# Altium footprint library ESP32-S3-WROOM-1.PcbLib: 40 footprints (part 3 of 3)
Each footprint in its own frame and in the unit in brackets; x right, y up, seen from the top. Pads: shape width x height; smd on the part's side, far side on the other; paste and mask are expansions set on the pad; w line width, h text height; cw(c..) or ccw(c..) is an arc to the next point about the centre after c.
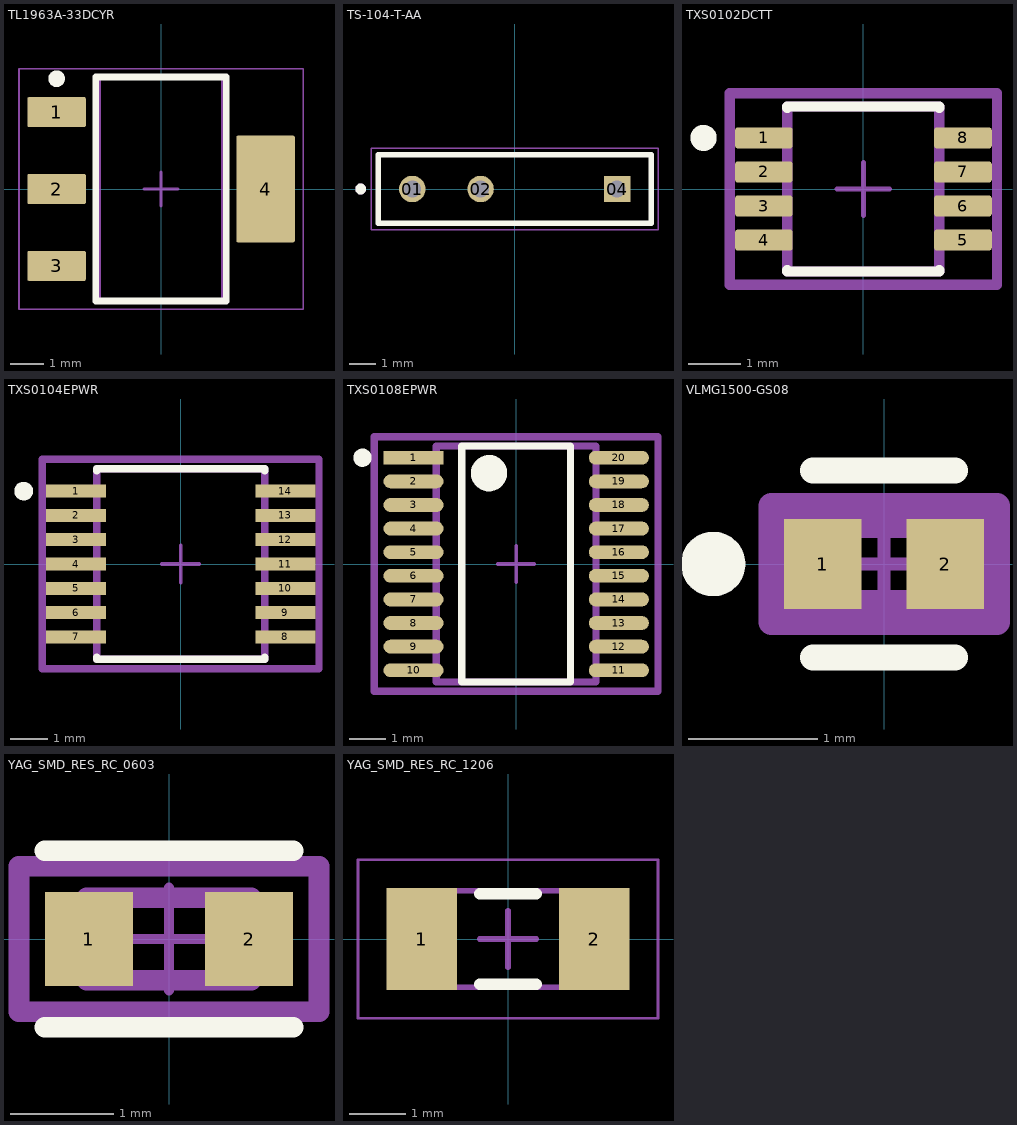
[diagram p2: the footprints below, top view; thin cyan lines are the x and y axes]

## TL1963A-33DCYR [mm] "SOT223, 4-Leads, Body 6.7x3.7mm, Pitch 2.3mm, IPC Medium Density"
height 1.8
pads (4):
  rrect11% 1.75x0.9 smd: 1(-3.125,2.3) 2(-3.125,0) 3(-3.125,-2.3)
  rrect6% 1.75x3.2 smd: 4(3.125,0)
Top Overlay:
  circle w0.25: c-3.125,3.3 r0.125
  lines w0.2: -1.95,-3.35 -1.95,3.35 1.95,3.35 1.95,-3.35 -1.95,-3.35
Mechanical 1:
  text ".Designator" at -1.651,-0.254 h0.8
Top 3D Body:
  lines w0.1: -1.85,-3.35 -1.85,3.35 1.85,3.35 1.85,-3.35 -1.85,-3.35
Top Courtyard:
  lines w0.05: -4.25,-3.6 -4.25,3.6 4.25,3.6 4.25,-3.6 -4.25,-3.6
  lines w0.1: -0.5,0 0.5,0 ; 0,-0.5 0,0.5
3D body "SOT-223.stp": height 1.62, standoff -0.03, extent -3.5,-3.25 3.5,3.25

## TS-104-T-AA [mm]
pads (3):
  round 0.985 hole 0.635: 01(-3.81,0) 02(-1.27,0)
  rect 0.985x0.985 hole 0.635: 04(3.81,0)
Top Overlay:
  circle w0.2: c-5.73,0 r0.1
  lines w0.2: -5.08,-1.27 5.08,-1.27 5.08,1.27 -5.08,1.27 -5.08,-1.27
Top 3D Body:
  circle w0.2: c-5.73,0 r0.1
  lines w0.1: -5.08,-1.27 -5.08,1.27 ; -5.08,-1.27 5.08,-1.27 ; -5.08,-1.27 -5.08,1.27 ; -5.08,1.27 5.08,1.27 ; -5.08,1.27 5.08,1.27 ; 5.08,-1.27 5.08,1.27 ; 5.08,-1.27 5.08,1.27
Top Courtyard:
  lines w0.05: -5.33,-1.52 5.33,-1.52 5.33,1.52 -5.33,1.52 -5.33,-1.52
3D body "7656388.stp": height 8.28, standoff -3.84, extent -5.182,-1.27 5.182,1.27

## TXS0102DCTT [mm]
pads (8):
  rrect25% 1.1x0.4 smd paste+0 mask+0: 1(-1.9,0.975) 2(-1.9,0.325) 3(-1.9,-0.325) 4(-1.9,-0.975) 5(1.9,-0.975) 6(1.9,-0.325) 7(1.9,0.325) 8(1.9,0.975)
Top Overlay:
  circle w0.25: c-3.052,0.975 r0.125
  lines w0.2: -1.45,-1.55 -1.45,-1.575 1.45,-1.575 1.45,-1.55 ; -1.45,1.55 -1.45,1.575 1.45,1.575 1.45,1.55
Top Assembly:
  lines w0.2: -2.55,-1.825 2.55,-1.825 2.55,1.825 -2.55,1.825 -2.55,-1.825
  text ".Designator" at 0,0.188 h1
Top 3D Body:
  lines w0.2: -1.45,-1.575 1.45,-1.575 1.45,1.575 -1.45,1.575 -1.45,-1.575
Top Courtyard:
  lines w0.2: -2.55,-1.825 2.55,-1.825 2.55,1.825 -2.55,1.825 -2.55,-1.825
Top Component Center:
  lines w0.1: -0.5,0 0.5,0 ; 0,-0.5 0,0.5
3D body "IC_Texas_Instruments_SN74LVC3G34DCTR_eec.STEP": height 0.25, standoff 0, extent -2.55,-1.825 2.55,1.825

## TXS0104EPWR [mm]
pads (14):
  rect 1.6x0.35 smd paste-1000 mask+0: 1(-2.8,1.95) 2(-2.8,1.3) 3(-2.8,0.65) 4(-2.8,0) 5(-2.8,-0.65) 6(-2.8,-1.3) 7(-2.8,-1.95) 8(2.8,-1.95) 9(2.8,-1.3) 10(2.8,-0.65) 11(2.8,0) 12(2.8,0.65) 13(2.8,1.3) 14(2.8,1.95)
Top Overlay:
  circle w0.25: c-4.2,1.95 r0.125
  lines w0.2: -2.25,-2.5 -2.25,-2.55 2.25,-2.55 2.25,-2.5 ; -2.25,2.5 -2.25,2.55 2.25,2.55 2.25,2.5
Top Paste:
  rectangle: -3.575,-2.1 -2.025,-1.8
  rectangle: -3.575,-1.45 -2.025,-1.15
  rectangle: -3.575,-0.8 -2.025,-0.5
  rectangle: -3.575,-0.15 -2.025,0.15
  rectangle: -3.575,0.5 -2.025,0.8
  rectangle: -3.575,1.15 -2.025,1.45
  rectangle: -3.575,1.8 -2.025,2.1
  rectangle: 2.025,-2.1 3.575,-1.8
  rectangle: 2.025,-1.45 3.575,-1.15
  rectangle: 2.025,-0.8 3.575,-0.5
  rectangle: 2.025,-0.15 3.575,0.15
  rectangle: 2.025,0.5 3.575,0.8
  rectangle: 2.025,1.15 3.575,1.45
  rectangle: 2.025,1.8 3.575,2.1
Top Assembly:
  lines w0.2: -3.7,-2.8 -3.7,2.8 3.7,2.8 3.7,-2.8 -3.7,-2.8
  text ".Designator" at 0,0.188 h1
Top 3D Body:
  lines w0.2: -2.25,-2.55 -2.25,2.55 2.25,2.55 2.25,-2.55 -2.25,-2.55
Top Courtyard:
  lines w0.2: -3.7,-2.8 -3.7,2.8 3.7,2.8 3.7,-2.8 -3.7,-2.8
Top Component Center:
  lines w0.1: -0.5,0 0.5,0 ; 0,-0.5 0,0.5
3D body "IC_Texas_Instruments_BQ34110PWR_eec.STEP": height 0.25, standoff 0, extent -3.7,-2.8 3.7,2.8

## TXS0108EPWR [mm]
pads (20):
  rect 1.655x0.381 smd paste+0 mask+0: 1(-2.825,2.925)
  rrect100% 1.655x0.381 smd paste+0 mask+0: 2(-2.825,2.275) 3(-2.825,1.625) 4(-2.825,0.975) 5(-2.825,0.325) 6(-2.825,-0.325) 7(-2.825,-0.975) 8(-2.825,-1.625) 9(-2.825,-2.275) 10(-2.825,-2.925) 11(2.825,-2.925) 12(2.825,-2.275) 13(2.825,-1.625) 14(2.825,-0.975) 15(2.825,-0.325) 16(2.825,0.325) 17(2.825,0.975) 18(2.825,1.625) 19(2.825,2.275) 20(2.825,2.925)
Top Overlay:
  circle w0.25: c-4.228,2.925 r0.125
  circle w0.5: c-0.748,2.5 r0.25
  lines w0.2: -1.498,-3.25 -1.498,3.25 1.498,3.25 1.498,-3.25 -1.498,-3.25
Top Assembly:
  lines w0.2: -3.903,-3.5 -3.903,3.5 3.903,3.5 3.903,-3.5 -3.903,-3.5
  text ".Designator" at 0,0.188 h1
Top 3D Body:
  lines w0.2: -2.2,-3.25 -2.2,3.25 2.2,3.25 2.2,-3.25 -2.2,-3.25
Top Courtyard:
  lines w0.2: -3.903,-3.5 -3.903,3.5 3.903,3.5 3.903,-3.5 -3.903,-3.5
Top Component Center:
  lines w0.1: -0.5,0 0.5,0 ; 0,-0.5 0,0.5
3D body "IC_Texas_Instruments_CDCE906PW_eec.STEP": height 0.25, standoff 0, extent -3.903,-3.5 3.903,3.5

## VLMG1500-GS08 [mm]
pads (2):
  rect 0.6x0.7 smd paste+0 mask+0: 1(-0.475,0) 2(0.475,0)
Top Overlay:
  circle w0.25: c-1.325,0 r0.125
  lines w0.2: -0.55,-0.725 0.55,-0.725 ; -0.55,0.725 0.55,0.725
Top Assembly:
  lines w0.2: -0.875,-0.45 -0.875,0.45 0.875,0.45 0.875,-0.45 -0.875,-0.45
  text ".Designator" at 0,-0.001 h1
Top 3D Body:
  lines w0.2: -0.55,-0.3 -0.55,0.3 0.55,0.3 0.55,-0.3 -0.55,-0.3
Top Courtyard:
  lines w0.2: -0.875,-0.45 -0.875,0.45 0.875,0.45 0.875,-0.45 -0.875,-0.45
Top Component Center:
  lines w0.1: -0.5,0 0.5,0 ; 0,-0.5 0,0.5
3D body "Diode_Vishay_VLMO1500-GS08_eec.STEP": height 0.25, standoff 0, extent -0.875,-0.45 0.875,0.45

## YAG_SMD_RES_RC_0603 [mm]
pads (2):
  rect 0.859x0.912 smd paste+0 mask+0: 1(-0.777,0) 2(0.777,0)
Top Overlay:
  lines w0.2: -1.206,-0.856 1.206,-0.856 ; -1.206,0.856 1.206,0.856
Top Assembly:
  lines w0.2: -1.456,-0.706 1.456,-0.706 1.456,0.706 -1.456,0.706 -1.456,-0.706
  text ".Designator" at 0,0.188 h1
Top 3D Body:
  lines w0.2: -0.8,-0.4 0.8,-0.4 0.8,0.4 -0.8,0.4 -0.8,-0.4
Top Courtyard:
  lines w0.2: -1.456,-0.706 1.456,-0.706 1.456,0.706 -1.456,0.706 -1.456,-0.706
Top Component Center:
  lines w0.1: -0.5,0 0.5,0 ; 0,-0.5 0,0.5
3D body "Res_Yageo_RC0603FR-07100KL_eec.STEP": height 0.25, standoff 0, extent -1.456,-0.706 1.456,0.706

## YAG_SMD_RES_RC_1206 [mm] "Chip Resistor, 2-Leads, Body 3.10x1.60mm, IPC Low Density"
height 0.65
pads (2):
  rect 1.25x1.8 smd: 1(-1.525,0) 2(1.525,0)
Top Overlay:
  lines w0.2: -0.5,-0.8 0.5,-0.8 ; -0.5,0.8 0.5,0.8
Top 3D Body:
  lines w0.1: -1.6,-0.85 -1.6,0.85 1.6,0.85 1.6,-0.85 -1.6,-0.85
Top Courtyard:
  lines w0.05: -2.65,-1.4 -2.65,1.4 2.65,1.4 2.65,-1.4 -2.65,-1.4
  lines w0.1: -0.5,0 0.5,0 ; 0,-0.5 0,0.5
3D body: height 0.65, standoff 0, extent -1.2,-0.85 1.2,0.85
3D body: height 0.65, standoff 0, extent -1.6,-0.85 -1.2,0.85
3D body: height 0.65, standoff 0, extent 1.2,-0.85 1.6,0.85